# EAGLE library part ESP_WROOM_02 (library blinkinlabs)
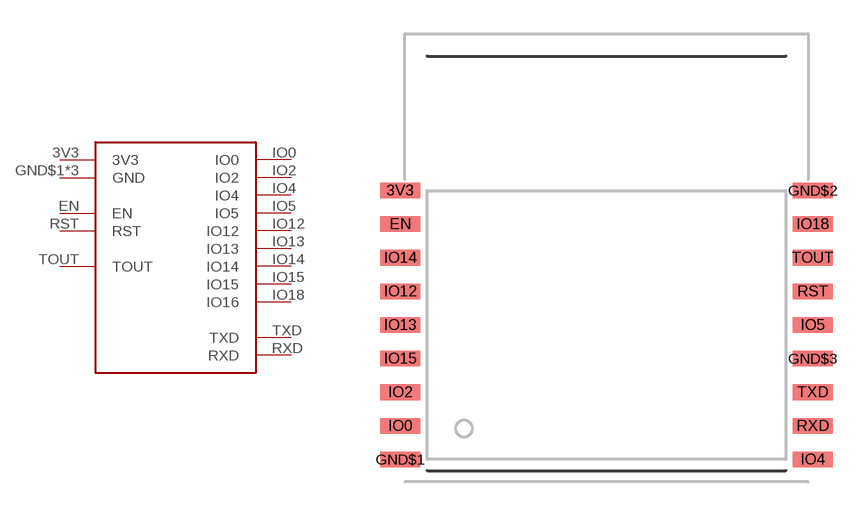
[diagram p14: symbol with the pads of ESP_WROOM_02; footprint ESP_WROOM_02]

Designator prefix -

## ESP_WROOM_02  [ESP_WROOM_02]
3V3  3V3
EN  EN
GND$1  GND
GND$2  GND
GND$3  GND
IO0  IO0
IO2  IO2
IO4  IO4
IO5  IO5
IO12  IO12
IO13  IO13
IO14  IO14
IO15  IO15
IO18  IO16
RST  RST
RXD  RXD
TOUT  TOUT
TXD  TXD

## Footprint ESP_WROOM_02 (pad centres in mm)
smd 1.8 x 0.7: 3V3 -9.2,3; EN -9.2,1.5; GND$1 -9.2,-9; GND$2 9.2,3; GND$3 9.2,-4.5; IO0 -9.2,-7.5; IO2 -9.2,-6; IO4 9.2,-9; IO5 9.2,-3; IO12 -9.2,-1.5; IO13 -9.2,-3; IO14 -9.2,0; IO15 -9.2,-4.5; IO18 9.2,1.5; RST 9.2,-1.5; RXD 9.2,-7.5; TOUT 9.2,0; TXD 9.2,-6